# Altium footprint library ushio_rp2040.PcbLib: 30 footprints (part 1 of 2)
Each footprint in its own frame and in the unit in brackets; x right, y up, seen from the top. Pads: shape width x height; smd on the part's side, far side on the other; paste and mask are expansions set on the pad; w line width, h text height; cw(c..) or ccw(c..) is an arc to the next point about the centre after c.
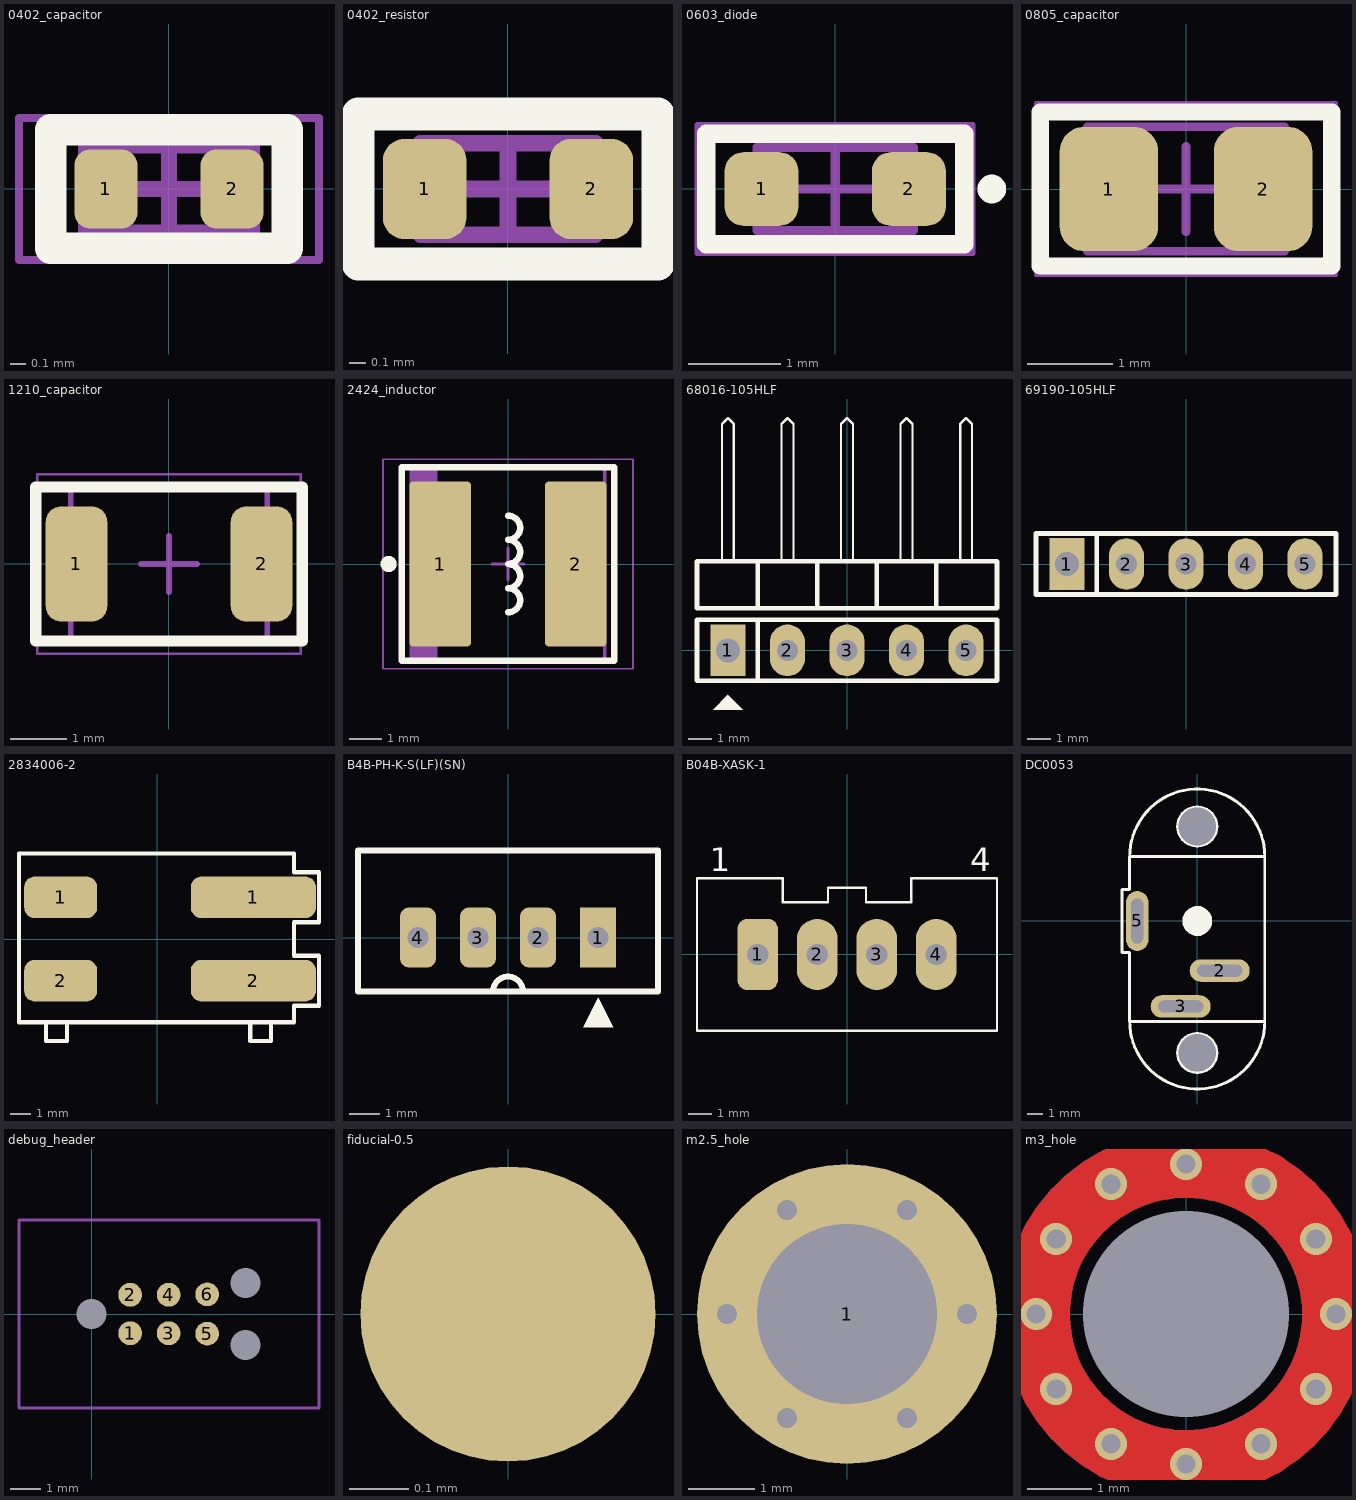
[diagram p0: the footprints below, top view; thin cyan lines are the x and y axes]

## 0402_capacitor [mm] "0402 chip capacitor"
height 0.55
pads (2):
  rrect50% 0.4x0.5 smd: 1(-0.4,0) 2(0.4,0)
Top Overlay:
  lines w0.2: -0.75,-0.375 -0.75,0.375 0.75,0.375 0.75,-0.375 -0.75,-0.375
Mechanical 13:
  lines w0.1: -0.525,-0.275 0.525,-0.275 0.525,0.275 -0.525,0.275 -0.525,-0.275
Mechanical 15:
  lines w0.05: -0.95,-0.45 0.95,-0.45 0.95,0.45 -0.95,0.45 -0.95,-0.45
  lines w0.1: -0.275,0 0.275,0 ; 0,-0.275 0,0.275
3D body "0402_capacitor.step": height 0.55, standoff 0, extent -0.525,-0.275 0.525,0.275

## 0402_resistor [mm] "Chip Resistor, 2-Leads, Body 1.00x0.50mm, IPC Medium Density"
height 0.4
pads (2):
  rrect50% 0.5x0.6 smd: 1(-0.5,0) 2(0.5,0)
Top Overlay:
  lines w0.2: -0.9,-0.45 0.9,-0.45 0.9,0.45 -0.9,0.45 -0.9,-0.45
Mechanical 13:
  lines w0.1: -0.525,-0.275 -0.525,0.275 0.525,0.275 0.525,-0.275 -0.525,-0.275
Mechanical 15:
  lines w0.05: -0.9,-0.45 -0.9,0.45 0.9,0.45 0.9,-0.45 -0.9,-0.45
  lines w0.1: -0.275,0 0.275,0 ; 0,-0.275 0,0.275
3D body "0402_resistor_fix.step": height 0.4, standoff 0, extent -0.525,-0.275 0.525,0.275

## 0603_diode [mm]
height 0.8
pads (2):
  rrect50% 0.8x0.8 smd: 1(-0.8,0) 2(0.8,0)
Top Overlay:
  circle w0.2: c1.7,0 r0.056
  lines w0.2: -1.4,-0.6 1.4,-0.6 1.4,0.6 -1.4,0.6 -1.4,-0.6
Mechanical 13:
  lines w0.1: -0.85,-0.45 -0.85,0.45 0.85,0.45 0.85,-0.45 -0.85,-0.45
Mechanical 15:
  lines w0.05: -1.5,-0.7 -1.5,0.7 1.5,0.7 1.5,-0.7 -1.5,-0.7
  lines w0.1: -0.45,0 0.45,0 ; 0,-0.45 0,0.45
3D body "0603_led.step": height 0.7, standoff 0, extent -0.8,-0.4 0.8,0.4

## 0805_capacitor [mm] "Chip Capacitor, 2-Leads, Body 2.00x1.25mm, IPC Medium Density"
height 0.95
pads (2):
  rrect50% 1.15x1.45 smd: 1(-0.9,0) 2(0.9,0)
Top Overlay:
  lines w0.2: -1.7,-0.9 -1.7,0.9 1.7,0.9 1.7,-0.9 -1.7,-0.9
Mechanical 13:
  lines w0.1: -1.15,-0.725 1.15,-0.725 1.15,0.725 -1.15,0.725 -1.15,-0.725
Mechanical 15:
  lines w0.05: -1.75,-1 1.75,-1 1.75,1 -1.75,1 -1.75,-1
  lines w0.1: -0.5,0 0.5,0 ; 0,-0.5 0,0.5
3D body "0805_capacitor.step": height 0.95, standoff 0, extent -1.15,-0.725 1.15,0.725

## 1210_capacitor [mm] "1210 chip capacitor"
height 2.7
pads (2):
  rrect50% 1.1x2.05 smd: 1(-1.65,0) 2(1.65,0)
Top Overlay:
  lines w0.2: -2.375,-1.375 2.375,-1.375 2.375,1.375 -2.375,1.375 -2.375,-1.375
Mechanical 13:
  lines w0.1: -1.75,-1.35 -1.75,1.35 1.75,1.35 1.75,-1.35 -1.75,-1.35
Mechanical 15:
  lines w0.05: -2.35,-1.6 -2.35,1.6 2.35,1.6 2.35,-1.6 -2.35,-1.6
  lines w0.1: -0.5,0 0.5,0 ; 0,-0.5 0,0.5
3D body "CAP1210.step": height 2.7, standoff 0, extent -1.75,-1.35 1.75,1.35

## 2424_inductor [mm] "Precision Wire Wound Inductor, 2-Leads, Body 6.00x6.00mm, IPC Medium Density"
height 4.5
pads (2):
  rrect10% 1.9x5.1 smd: 1(-2.1,0) 2(2.1,0)
Top Overlay:
  circle w0.25: c-3.7,0 r0.125
  lines w0.2: 0,-1.5 ccw(c0,-1.125) 0,-0.75 ccw(c0,-0.375) 0,0 ccw(c0,0.375) 0,0.75 ccw(c0,1.125) 0,1.5 ; -3.3,-3 -3.3,3 3.3,3 3.3,-3 -3.3,-3
Top Courtyard:
  lines w0.05: -3.875,-3.25 3.875,-3.25 3.875,3.25 -3.875,3.25 -3.875,-3.25
  lines w0.1: -0.5,0 0.5,0 ; 0,-0.5 0,0.5
Mechanical 13:
  rectangle: -3,-3 -2.193,3
  lines w0.1: -3,-3 3,-3 3,3 -3,3 -3,-3
3D body "vls6045ex-6r8m_inductor.step": height 4.51, standoff 0.01, extent -3,-3 3,3

## 68016-105HLF [mm] "5-pin 0.1\" header, right angle"
pads (5):
  rect 1.5x2.2 hole 1.02: 1(-5.08,0)
  oval 1.5x2.2 hole 0.9: 2(-2.54,0) 3(0,0) 4(2.54,0) 5(5.08,0)
Top Overlay:
  region: -5.715,-2.54 -5.08,-1.905 -4.445,-2.54
  lines w0.1: -5.334,3.81 -5.334,9.652 -5.08,9.906 -4.826,9.652 -4.826,3.81 ; -2.794,3.81 -2.794,9.652 -2.54,9.906 -2.286,9.652 -2.286,3.81 ; -0.254,3.81 -0.254,9.652 0,9.906 0.254,9.652 0.254,3.81 ; 2.286,3.81 2.286,9.652 2.54,9.906 2.794,9.652 2.794,3.81 ; 4.826,3.81 4.826,9.652 5.08,9.906 5.334,9.652 5.334,3.81
  lines w0.2: -3.81,-1.27 -3.81,1.3 ; -3.81,1.905 -3.81,3.683 ; -1.27,1.905 -1.27,3.683 ; 1.27,1.905 1.27,3.683 ; 3.81,1.905 3.81,3.683 ; -6.4,-1.3 -6.4,1.3 6.4,1.3 6.4,-1.3 -6.4,-1.3 ; -6.4,1.8 6.4,1.8 6.4,3.8 -6.4,3.8 -6.4,1.8
3D body "68016-105HLF.STEP": height 2.51, standoff -2.95, extent -6.35,-0.31 6.35,9.91

## 69190-105HLF [mm] "5-pin 0.1\" header"
pads (5):
  rect 1.5x2.2 hole 1.02: 1(-5.08,0)
  oval 1.5x2.2 hole 0.9: 2(-2.54,0) 3(0,0) 4(2.54,0) 5(5.08,0)
Top Overlay:
  lines w0.2: -3.81,-1.27 -3.81,1.3 ; -6.4,-1.3 -6.4,1.3 6.4,1.3 6.4,-1.3 -6.4,-1.3
3D body "69190-105hlf_connector.step": height 8.39, standoff -3.04, extent -6.35,-1.205 6.35,1.205

## 2834006-2 [mm] "2-Pin spring clamp terminal"
pads (4):
  rrect50% 3.5x2 smd: 1(-4.625,2) 2(-4.625,-2)
  rrect50% 6x2 smd: 1(4.625,2) 2(4.625,-2)
Top Overlay:
  lines w0.2: -5.325,-4.1 -5.325,-4.9 -4.325,-4.9 -4.325,-4.1 ; 4.475,-4 4.475,-4.9 5.475,-4.9 5.475,-4 ; -6.625,-4 6.575,-4 6.575,-3.2 7.775,-3.2 7.775,-0.8 6.575,-0.8 6.575,0.8 7.775,0.8 7.775,3.2 6.575,3.2 6.575,4.1 -6.625,4.1 -6.625,-4
3D body "2834006-2_wire_connector.step": height 4.49, standoff 0.01, extent -6.325,-4.9 7.518,4.05

## B4B-PH-K-S(LF)(SN) [mm]
pads (4):
  rect 1.2x2 hole 0.7: 1(3,0)
  rrect50% 1.2x2 hole 0.7: 2(1,0) 3(-1,0) 4(-3,0)
Top Overlay:
  region: 2.5,-3 3.5,-3 3,-2
  lines w0.2: -0.5,-1.8 cw(c0,-1.8) 0.5,-1.8 ; -0.5,2.9 5,2.9 5,-1.8 -5,-1.8 -5,2.9 0.5,2.9
3D body "b4b-ph-k-s_connector.step": height 6.01, standoff -3.39, extent -4.95,-1.7 4.95,2.8

## B04B-XASK-1 [mm] "JST XA 2.5mm header"
pads (4):
  rrect50% 1.7x3 hole 0.9: 1(-3.75,0)
  oval 1.7x3 hole 0.9: 2(-1.25,0) 3(1.25,0) 4(3.75,0)
Top Overlay:
  lines w0.1: -6.3,-3.2 6.3,-3.2 6.3,3.2 2.7,3.2 2.7,2.2 0.8,2.2 0.8,2.8 -0.8,2.8 -0.8,2.2 -2.7,2.2 -2.7,3.2 -6.3,3.2 -6.3,-3.2
  text "1" at -5.767,3.5 h1
  text "4" at 5.167,3.5 h1
3D body "b04b-xask-1_connector.step": height 8.81, standoff -3.39, extent -6.25,-3.2 6.25,3.2

## DC0053 [mm] "5.5mm x 2 mm Barrel jack"
pads (5):
  oval 4x1.5 hole 0.8 slot 3 at 0 deg: 2(1.5,-3.3) 3(-1.1,-5.7)
  oval 1.5x4 hole 0.8 slot 3 at 90 deg: 5(-4,0)
  round 0 hole 2.5 unplated: ""(0,-8.8) ""(0,6.3)
Top Overlay:
  circle w1: c0,0 r0.5
  circle w0.2: c0,-8.8 r1.304
  circle w0.2: c0,6.3 r1.304
  lines w0.2: -4.5,-6.7 ccw(c0,-6.7) 4.5,-6.7 ; -4.5,-6.7 4.5,-6.7 ; -4.5,-6.7 -4.5,-2.1 -5,-2.1 -5,2.1 -4.5,2.1 -4.5,4.3 ; -4.5,4.3 cw(c0,4.3) 4.5,4.3 ; -4.5,4.3 4.5,4.3 ; 4.5,-6.7 4.5,4.3
3D body "dc0053_connector.step": height 11.91, standoff -4.49, extent -4.5,-11.2 4.5,8.8

## debug_header [mm]
pads (9):
  round 0.787 smd paste-2: 1(1.27,-0.635) 2(1.27,0.635) 3(2.54,-0.635) 4(2.54,0.635) 5(3.81,-0.65) 6(3.81,0.65)
  round 0 hole 0.991 unplated: ""(0,0) ""(5.08,-1.016) ""(5.08,1.016)
Top Courtyard:
  lines w0.1: -2.4,-3.1 -2.4,3.1 7.5,3.1 7.5,-3.1 -2.4,-3.1

## fiducial-0.5 [mm] "0.5mm diameter fiducial"
pads (1):
  round 0.5 smd paste-1 mask+0.5: ""(0,0)

## m2.5_hole [mm] "M2.5 hole, with via stitching"
pads (1):
  round 4.5 hole 2.7 unplated mask+1.25: 1(0,0)
via -0.9,-1.559 diameter 0.5 hole 0.3
via 0.9,-1.559 diameter 0.5 hole 0.3
via 1.8,0 diameter 0.5 hole 0.3
via 0.9,1.559 diameter 0.5 hole 0.3
via -0.9,1.559 diameter 0.5 hole 0.3
via -1.8,0 diameter 0.5 hole 0.3

## m3_hole [mm] "M3 hole, with via stitching"
pads (2):
  round 0.1 smd: 1(0,-2.2)
  round 0 hole 3.2 unplated mask+1.25: 1(0,0)
via 0,2.33 diameter 0.5 hole 0.3
via 0,-2.33 diameter 0.5 hole 0.3
via 2.018,1.165 diameter 0.5 hole 0.3
via -2.018,-1.165 diameter 0.5 hole 0.3
via -2.018,1.165 diameter 0.5 hole 0.3
via 2.018,-1.165 diameter 0.5 hole 0.3
via 1.165,2.018 diameter 0.5 hole 0.3
via -1.165,-2.018 diameter 0.5 hole 0.3
via 2.33,0 diameter 0.5 hole 0.3
via -2.33,0 diameter 0.5 hole 0.3
via -1.165,2.018 diameter 0.5 hole 0.3
via 1.165,-2.018 diameter 0.5 hole 0.3
Top Layer:
  circle w1.05: c0,0 r2.33
Bottom Layer:
  circle w1.05: c0,0 r2.33
Multi-Layer:
  pour cut-out: 0,-1.8 0.177,-1.8 0.526,-1.731 0.854,-1.596 1.149,-1.399 1.4,-1.148 1.598,-0.853 1.734,-0.525 1.803,-0.177 1.803,0 1.8,0 1.8,0.177 1.731,0.525 1.596,0.852 1.4,1.147 1.149,1.397 0.855,1.595 0.528,1.73 0.18,1.8 0.003,1.8 0,1.8 -0.177,1.8 -0.524,1.73 -0.852,1.595 -1.146,1.397 -1.396,1.147 -1.593,0.852 -1.728,0.525 -1.797,0.177 -1.797,0 -1.8,0 -1.8,-0.177 -1.73,-0.525 -1.594,-0.853 -1.397,-1.148 -1.146,-1.399 -0.85,-1.596 -0.522,-1.731 -0.174,-1.8 0.003,-1.8